# Altium schematic symbol library Schottky_x2_series_dual.SchLib: 1 symbol
Pins are listed as number, name and electrical type; pins without a type are passive.

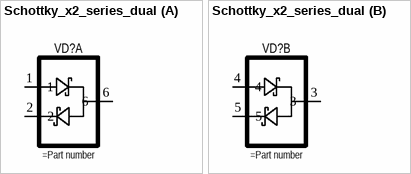
[diagram p0: symbol Schottky_x2_series_dual]

## Schottky_x2_series_dual
designator VD?
part A pins: 1, 2, 6
part B pins: 3, 4, 5